# Altium schematic symbol library RV16A-41_POT.SchLib: 1 symbol
Pins are listed as number, name and electrical type; pins without a type are passive.

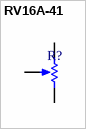
[diagram p0: symbol RV16A-41]

## RV16A-41
designator R?
pins: 1 TOP, 2 TAP, 3 BOT